# EAGLE library part 61729-1011BLF (library Common-Parts-Library-Eagle)
Conn USB Type B RCP 4 POS 2.5mm Solder RA Thru-Hole 4 Terminal 1 Port Tube
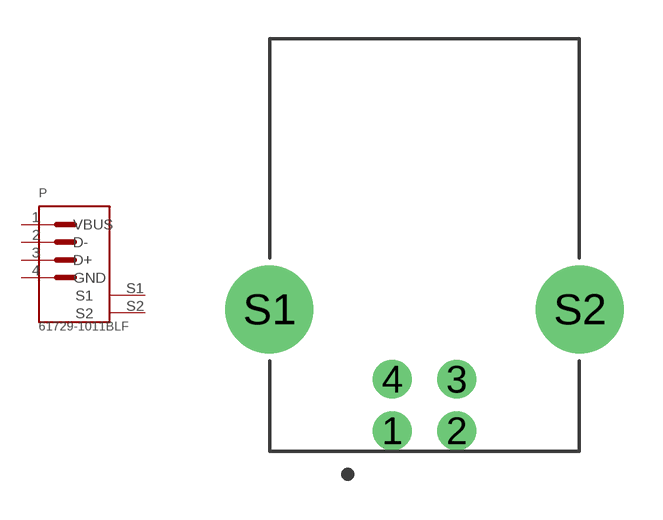
[diagram p12: symbol with the pads of FCI_61729-1011BLF; footprint FCI_61729-1011BLF]

Designator prefix P

## 61729-1011BLF (MANUFACTURER: Framatome)  [FCI_61729-1011BLF]
1  VBUS  pwr
2  D-
3  D+
4  GND  pwr
S1  S1  pas
S2  S2  pas

## Footprint FCI_61729-1011BLF (pad centres in mm)
drill 1: 1 -1.25,-4.71; 2 1.25,-4.71; 3 1.25,-2.71; 4 -1.25,-2.71
drill 2.4: S1 -6.02,0; S2 6.02,0